# Altium integrated library Diodes - TVS.IntLib: 5379 symbols (part 62 of 122)
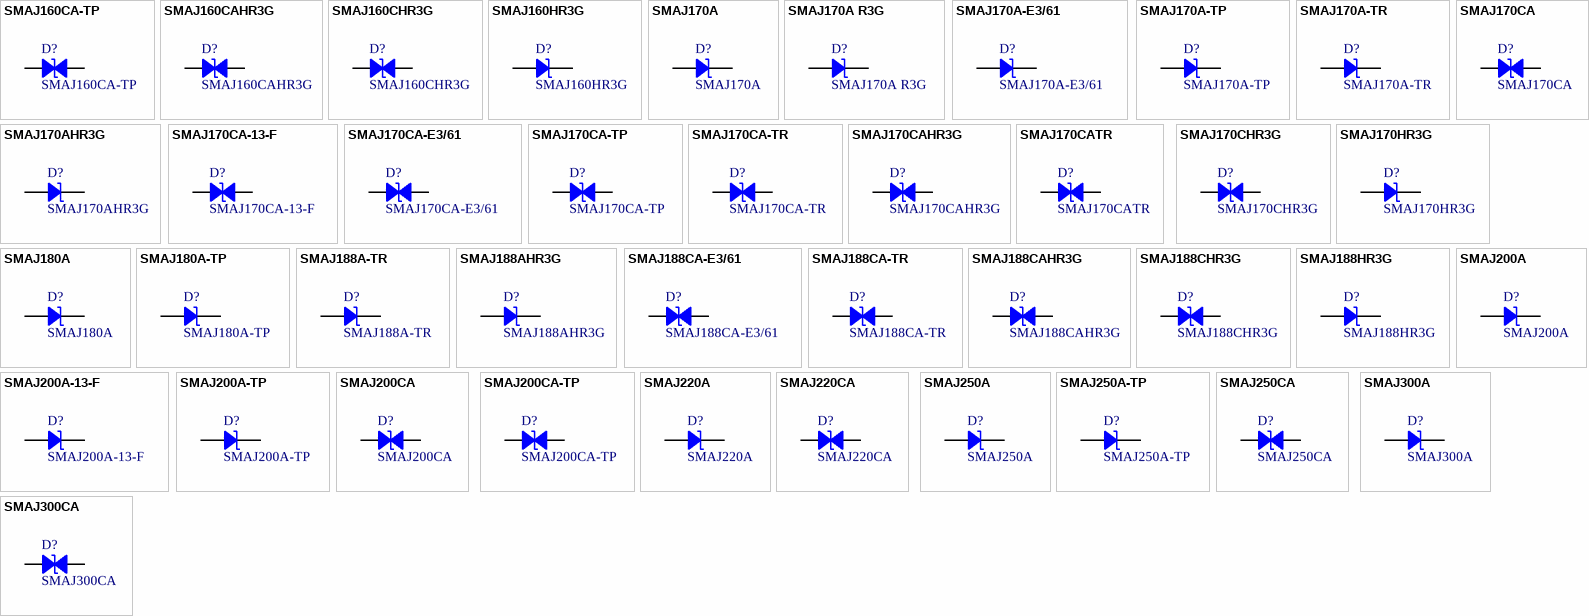
[diagram p195: symbols SMAJ160CA-TP to SMAJ300CA]

## SMAJ170CAHR3G
designator D?
TVS DIODE 170V 275V DO214AC; Manufacturer: Taiwan Semiconductor Corporation; Bidirectional Channels: 1; Current - Peak Pulse (10/1000µs): 1.1A; Power Line Protection: No; Power - Peak Pulse: 400W; Type: Zener; Voltage - Breakdown (Min): 189V; Part Number: SMAJ170CAHR3G; Applications: Automotive; ComponentLink1Description: Datasheet; ComponentLink1URL: https://www.taiwansemi.com/products/datasheet/SMAJ%20SERIES_S1901.pdf; ComponentLink2Description: DigiKey Link; ComponentLink2URL: http://digikey.com/product-detail/en/taiwan-semiconductor-corporation/SMAJ170CAHR3G/SMAJ170CAHR3GCT-ND/10287922; LastUpdated: 9/2/2020 1:27:54 AM; Lifecycle Status: Active; Minimum Order: 1; Mounting Type: Surface Mount; Operating Temperature: -55°C ~ 150°C (TJ); Package / Case: DO-214AC, SMA; Packaging: TapeAndReel; PartId: 7707; Part Status: Active; Price: 0.12; Series: Automotive, AEC-Q101, SMAJ; Supplier 1: DigiKey; Supplier Part Number 1: SMAJ170CAHR3GCT-ND; Supplier Device Package: DO-214AC (SMA); Voltage - Clamping (Max) @ Ipp: 275V; Voltage - Reverse Standoff (Typ): 170V
footprint DO214AC SMA
pins: 1, 2

## SMAJ170CATR
designator D?
TVS DIODE 170V 275V SMA; Manufacturer: SMC Diode Solutions; Bidirectional Channels: 1; Current - Peak Pulse (10/1000µs): 1.4A; Power Line Protection: No; Power - Peak Pulse: 400W; Type: Zener; Voltage - Breakdown (Min): 189V; Part Number: SMAJ170CATR; Applications: General Purpose; ComponentLink1Description: Datasheet; ComponentLink1URL: http://www.smc-diodes.com/propdf/SMAJ%20SERIES%20N0223%20REV.B.pdf; ComponentLink2Description: DigiKey Link; ComponentLink2URL: http://digikey.com/product-detail/en/smc-diode-solutions/SMAJ170CATR/1655-1611-1-ND/6023056; LastUpdated: 9/2/2020 1:27:55 AM; Lifecycle Status: Active; Minimum Order: 1; Mounting Type: Surface Mount; Operating Temperature: -55°C ~ 150°C (TJ); Package / Case: DO-214AC, SMA; Packaging: TapeAndReel; PartId: 7809; Part Status: Active; Price: 0.07; Series: SMAJ; Supplier 1: DigiKey; Supplier Part Number 1: 1655-1611-1-ND; Supplier Device Package: SMA (DO-214AC); Voltage - Clamping (Max) @ Ipp: 275V; Voltage - Reverse Standoff (Typ): 170V
footprint DO214AC SMA
pins: 1, 2

## SMAJ170CHR3G
designator D?
400W 210V 10% BIDIRECTIONAL TVS; Manufacturer: Taiwan Semiconductor Corporation; Bidirectional Channels: 1; Current - Peak Pulse (10/1000µs): 1A; Power Line Protection: No; Type: Zener; Voltage - Breakdown (Min): 189V; Voltage - Clamping (Max) @ Ipp: 304V; Voltage - Reverse Standoff (Typ): 170V; Part Number: SMAJ170CHR3G; Applications: Automotive; ComponentLink1Description: Datasheet; ComponentLink1URL: https://www.taiwansemi.com/products/datasheet/SMAJ%20SERIES_S1901.pdf; ComponentLink2Description: DigiKey Link; ComponentLink2URL: http://digikey.com/product-detail/en/taiwan-semiconductor-corporation/SMAJ170CHR3G/SMAJ170CHR3GCT-ND/10287839; LastUpdated: 9/2/2020 1:27:54 AM; Lifecycle Status: Active; Minimum Order: 1; Mounting Type: Surface Mount; Operating Temperature: -55°C ~ 150°C (TJ); Package / Case: DO-214AC, SMA; Packaging: TapeAndReel; PartId: 7743; Part Status: Active; Power - Peak Pulse: 400W; Price: 0.11; Series: Automotive, AEC-Q101, SMAJ; Supplier 1: DigiKey; Supplier Part Number 1: SMAJ170CHR3GCT-ND; Supplier Device Package: DO-214AC (SMA)
footprint DO214AC SMA
pins: 1, 2

## SMAJ170HR3G
designator D?
400W 210V 10% UNIDIRECTIONAL TVS; Manufacturer: Taiwan Semiconductor Corporation; Current - Peak Pulse (10/1000µs): 1A; Power Line Protection: No; Type: Zener; Unidirectional Channels: 1; Voltage - Breakdown (Min): 189V; Voltage - Clamping (Max) @ Ipp: 304V; Voltage - Reverse Standoff (Typ): 170V; Part Number: SMAJ170HR3G; Applications: Automotive; ComponentLink1Description: Datasheet; ComponentLink1URL: https://www.taiwansemi.com/products/datasheet/SMAJ%20SERIES_S1901.pdf; ComponentLink2Description: DigiKey Link; ComponentLink2URL: http://digikey.com/product-detail/en/taiwan-semiconductor-corporation/SMAJ170HR3G/SMAJ170HR3GCT-ND/10287840; LastUpdated: 9/2/2020 1:20:17 AM; Lifecycle Status: Active; Minimum Order: 1; Mounting Type: Surface Mount; Operating Temperature: -55°C ~ 150°C (TJ); Package / Case: DO-214AC, SMA; Packaging: TapeAndReel; PartId: 6015; Part Status: Active; Power - Peak Pulse: 400W; Price: 0.12; Series: Automotive, AEC-Q101, SMAJ; Supplier 1: DigiKey; Supplier Part Number 1: SMAJ170HR3GCT-ND; Supplier Device Package: DO-214AC (SMA)
footprint DO214AC SMA
pins: 1, 2

## SMAJ180A
designator D?
TVS DIODE 180V 292V DO214AC; Manufacturer: Bourns Inc.; Current - Peak Pulse (10/1000µs): 1.4A; Power Line Protection: No; Power - Peak Pulse: 400W; Type: Zener; Unidirectional Channels: 1; Voltage - Breakdown (Min): 201V; Part Number: SMAJ180A; Applications: General Purpose; ComponentLink1Description: Datasheet; ComponentLink1URL: https://www.bourns.com/docs/Product-Datasheets/SMAJ.pdf; ComponentLink2Description: DigiKey Link; ComponentLink2URL: http://digikey.com/product-detail/en/bourns-inc/SMAJ180A/SMAJ180ABBCT-ND/6181616; LastUpdated: 9/2/2020 1:20:14 AM; Lifecycle Status: Active; Minimum Order: 1; Mounting Type: Surface Mount; Operating Temperature: -55°C ~ 150°C (TJ); Package / Case: DO-214AC, SMA; Packaging: TapeAndReel; PartId: 5724; Part Status: Active; Price: 0.17; Series: SMAJ; Supplier 1: DigiKey; Supplier Part Number 1: SMAJ180ABBCT-ND; Supplier Device Package: DO-214AC (SMA); Voltage - Clamping (Max) @ Ipp: 292V; Voltage - Reverse Standoff (Typ): 180V
footprint DO214AC SMA
pins: 1, 2

## SMAJ180A-TP
designator D?
TVS DIODE 180V 292V DO214AC; Manufacturer: Micro Commercial Co; Current - Peak Pulse (10/1000µs): 1.4A; Power Line Protection: No; Power - Peak Pulse: 400W; Type: Zener; Unidirectional Channels: 1; Voltage - Breakdown (Min): 201V; Part Number: SMAJ180A-TP; Applications: General Purpose; ComponentLink1Description: Datasheet; ComponentLink1URL: https://www.mccsemi.com/pdf/Products/SMAJ5.0~SMAJ440CA(SMA).pdf; ComponentLink2Description: DigiKey Link; ComponentLink2URL: http://digikey.com/product-detail/en/micro-commercial-co/SMAJ180A-TP/SMAJ180A-TPMSCT-ND/4429428; LastUpdated: 9/2/2020 1:20:14 AM; Lifecycle Status: Active; Minimum Order: 1; Mounting Type: Surface Mount; Operating Temperature: -55°C ~ 175°C (TA); Package / Case: DO-214AC, SMA; Packaging: TapeAndReel; PartId: 5658; Part Status: Active; Price: 0.10; Series: -; Supplier 1: DigiKey; Supplier Part Number 1: SMAJ180A-TPMSCT-ND; Supplier Device Package: DO-214AC (SMA); Voltage - Clamping (Max) @ Ipp: 292V; Voltage - Reverse Standoff (Typ): 180V
footprint DO214AC SMA
pins: 1, 2

## SMAJ188A-TR
designator D?
TVS DIODE 188V 388V SMA; Manufacturer: STMicroelectronics; Current - Peak Pulse (10/1000µs): 6A (8/20µs); Power Line Protection: No; Power - Peak Pulse: 400W; Type: Zener; Unidirectional Channels: 1; Voltage - Breakdown (Min): 209V; Part Number: SMAJ188A-TR; Applications: General Purpose; ComponentLink1Description: Datasheet; ComponentLink1URL: http://www.st.com/content/ccc/resource/technical/document/datasheet/ff/c0/80/cc/19/4c/45/af/CD00001333.pdf/files/CD00001333.pdf/_jcr_content/translations/en.CD00001333.pdf; ComponentLink2Description: DigiKey Link; ComponentLink2URL: http://digikey.com/product-detail/en/stmicroelectronics/SMAJ188A-TR/497-16440-1-ND/5974912; LastUpdated: 9/2/2020 1:20:15 AM; Lifecycle Status: Active; Minimum Order: 1; Mounting Type: Surface Mount; Operating Temperature: -55°C ~ 150°C (TJ); Package / Case: DO-214AC, SMA; Packaging: TapeAndReel; PartId: 5820; Part Status: Active; Price: 0.10; Series: SMAJ, TRANSIL™; Supplier 1: DigiKey; Supplier Part Number 1: 497-16440-1-ND; Supplier Device Package: SMA (DO-214AC); Voltage - Clamping (Max) @ Ipp: 388V; Voltage - Reverse Standoff (Typ): 188V
footprint DO214AC SMA
pins: 1, 2

## SMAJ188AHR3G
designator D?
TVS DIODE 188V 328V DO214AC; Manufacturer: Taiwan Semiconductor Corporation; Current - Peak Pulse (10/1000µs): 900mA; Power Line Protection: No; Power - Peak Pulse: 400W; Type: Zener; Unidirectional Channels: 1; Voltage - Breakdown (Min): 209V; Part Number: SMAJ188AHR3G; Applications: Automotive; ComponentLink1Description: Datasheet; ComponentLink1URL: https://www.taiwansemi.com/products/datasheet/SMAJ%20SERIES_S1901.pdf; ComponentLink2Description: DigiKey Link; ComponentLink2URL: http://digikey.com/product-detail/en/taiwan-semiconductor-corporation/SMAJ188AHR3G/SMAJ188AHR3GCT-ND/10287925; LastUpdated: 9/2/2020 1:20:17 AM; Lifecycle Status: Active; Minimum Order: 1; Mounting Type: Surface Mount; Operating Temperature: -55°C ~ 150°C (TJ); Package / Case: DO-214AC, SMA; Packaging: TapeAndReel; PartId: 6032; Part Status: Active; Price: 0.11; Series: Automotive, AEC-Q101, SMAJ; Supplier 1: DigiKey; Supplier Part Number 1: SMAJ188AHR3GCT-ND; Supplier Device Package: DO-214AC (SMA); Voltage - Clamping (Max) @ Ipp: 328V; Voltage - Reverse Standoff (Typ): 188V
footprint DO214AC SMA
pins: 1, 2

## SMAJ188CA-E3/61
designator D?
TVS DIODE 188V 328V DO214AC; Manufacturer: Vishay Semiconductor Diodes Division; Bidirectional Channels: 1; Current - Peak Pulse (10/1000µs): 910mA; Power Line Protection: No; Power - Peak Pulse: 300W; Type: Zener; Voltage - Breakdown (Min): 209V; Part Number: SMAJ188CA-E3/61; Applications: General Purpose; ComponentLink1Description: Datasheet; ComponentLink1URL: http://www.vishay.com/docs/88390/smaj50a.pdf; ComponentLink2Description: DigiKey Link; ComponentLink2URL: http://digikey.com/product-detail/en/vishay-semiconductor-diodes-division/SMAJ188CA-E3-61/SMAJ188CA-E3-61GICT-ND/1091630; LastUpdated: 9/2/2020 1:27:55 AM; Lifecycle Status: Active; Minimum Order: 1; Mounting Type: Surface Mount; Operating Temperature: -55°C ~ 150°C (TJ); Package / Case: DO-214AC, SMA; Packaging: TapeAndReel; PartId: 7832; Part Status: Active; Price: 0.10; Series: TransZorb®; Supplier 1: DigiKey; Supplier Part Number 1: SMAJ188CA-E3/61GICT-ND; Supplier Device Package: DO-214AC (SMA); Voltage - Clamping (Max) @ Ipp: 328V; Voltage - Reverse Standoff (Typ): 188V
footprint DO214AC SMA
pins: 1, 2

## SMAJ188CA-TR
designator D?
TVS DIODE 188V 388V SMA; Manufacturer: STMicroelectronics; Bidirectional Channels: 1; Current - Peak Pulse (10/1000µs): 6A (8/20µs); Power Line Protection: No; Power - Peak Pulse: 400W; Type: Zener; Voltage - Breakdown (Min): 209V; Part Number: SMAJ188CA-TR; Applications: General Purpose; ComponentLink1Description: Datasheet; ComponentLink1URL: http://www.st.com/content/ccc/resource/technical/document/datasheet/ff/c0/80/cc/19/4c/45/af/CD00001333.pdf/files/CD00001333.pdf/_jcr_content/translations/en.CD00001333.pdf; ComponentLink2Description: DigiKey Link; ComponentLink2URL: http://digikey.com/product-detail/en/stmicroelectronics/SMAJ188CA-TR/497-7891-1-ND/1883774; LastUpdated: 9/2/2020 1:27:55 AM; Lifecycle Status: Active; Minimum Order: 1; Mounting Type: Surface Mount; Operating Temperature: -55°C ~ 150°C (TJ); Package / Case: DO-214AC, SMA; Packaging: TapeAndReel; PartId: 7764; Part Status: Active; Price: 0.10; Series: SMAJ, TRANSIL™; Supplier 1: DigiKey; Supplier Part Number 1: 497-7891-1-ND; Supplier Device Package: SMA (DO-214AC); Voltage - Clamping (Max) @ Ipp: 388V; Voltage - Reverse Standoff (Typ): 188V
footprint DO214AC SMA
pins: 1, 2

## SMAJ188CAHR3G
designator D?
TVS DIODE 188V 328V DO214AC; Manufacturer: Taiwan Semiconductor Corporation; Bidirectional Channels: 1; Current - Peak Pulse (10/1000µs): 900mA; Power Line Protection: No; Power - Peak Pulse: 400W; Type: Zener; Voltage - Breakdown (Min): 209V; Part Number: SMAJ188CAHR3G; Applications: Automotive; ComponentLink1Description: Datasheet; ComponentLink1URL: https://www.taiwansemi.com/products/datasheet/SMAJ%20SERIES_S1901.pdf; ComponentLink2Description: DigiKey Link; ComponentLink2URL: http://digikey.com/product-detail/en/taiwan-semiconductor-corporation/SMAJ188CAHR3G/SMAJ188CAHR3GCT-ND/10287926; LastUpdated: 9/2/2020 1:27:54 AM; Lifecycle Status: Active; Minimum Order: 1; Mounting Type: Surface Mount; Operating Temperature: -55°C ~ 150°C (TJ); Package / Case: DO-214AC, SMA; Packaging: TapeAndReel; PartId: 7705; Part Status: Active; Price: 0.12; Series: Automotive, AEC-Q101, SMAJ; Supplier 1: DigiKey; Supplier Part Number 1: SMAJ188CAHR3GCT-ND; Supplier Device Package: DO-214AC (SMA); Voltage - Clamping (Max) @ Ipp: 328V; Voltage - Reverse Standoff (Typ): 188V
footprint DO214AC SMA
pins: 1, 2

## SMAJ188CHR3G
designator D?
400W 232V 10% BIDIRECTIONAL TVS; Manufacturer: Taiwan Semiconductor Corporation; Bidirectional Channels: 1; Current - Peak Pulse (10/1000µs): 900mA; Power Line Protection: No; Type: Zener; Voltage - Breakdown (Min): 209V; Voltage - Clamping (Max) @ Ipp: 344V; Voltage - Reverse Standoff (Typ): 188V; Part Number: SMAJ188CHR3G; Applications: Automotive; ComponentLink1Description: Datasheet; ComponentLink1URL: https://www.taiwansemi.com/products/datasheet/SMAJ%20SERIES_S1901.pdf; ComponentLink2Description: DigiKey Link; ComponentLink2URL: http://digikey.com/product-detail/en/taiwan-semiconductor-corporation/SMAJ188CHR3G/SMAJ188CHR3GCT-ND/10287843; LastUpdated: 9/2/2020 1:27:54 AM; Lifecycle Status: Active; Minimum Order: 1; Mounting Type: Surface Mount; Operating Temperature: -55°C ~ 150°C (TJ); Package / Case: DO-214AC, SMA; Packaging: TapeAndReel; PartId: 7741; Part Status: Active; Power - Peak Pulse: 400W; Price: 0.11; Series: Automotive, AEC-Q101, SMAJ; Supplier 1: DigiKey; Supplier Part Number 1: SMAJ188CHR3GCT-ND; Supplier Device Package: DO-214AC (SMA)
footprint DO214AC SMA
pins: 1, 2

## SMAJ188HR3G
designator D?
400W 232V 10% UNIDIRECTIONAL TVS; Manufacturer: Taiwan Semiconductor Corporation; Current - Peak Pulse (10/1000µs): 900mA; Power Line Protection: No; Type: Zener; Unidirectional Channels: 1; Voltage - Breakdown (Min): 209V; Voltage - Clamping (Max) @ Ipp: 344V; Voltage - Reverse Standoff (Typ): 188V; Part Number: SMAJ188HR3G; Applications: Automotive; ComponentLink1Description: Datasheet; ComponentLink1URL: https://www.taiwansemi.com/products/datasheet/SMAJ%20SERIES_S1901.pdf; ComponentLink2Description: DigiKey Link; ComponentLink2URL: http://digikey.com/product-detail/en/taiwan-semiconductor-corporation/SMAJ188HR3G/SMAJ188HR3GCT-ND/10287844; LastUpdated: 9/2/2020 1:20:17 AM; Lifecycle Status: Active; Minimum Order: 1; Mounting Type: Surface Mount; Operating Temperature: -55°C ~ 150°C (TJ); Package / Case: DO-214AC, SMA; Packaging: TapeAndReel; PartId: 6013; Part Status: Active; Power - Peak Pulse: 400W; Price: 0.12; Series: Automotive, AEC-Q101, SMAJ; Supplier 1: DigiKey; Supplier Part Number 1: SMAJ188HR3GCT-ND; Supplier Device Package: DO-214AC (SMA)
footprint DO214AC SMA
pins: 1, 2

## SMAJ200A
designator D?
TVS DIODE 200V 324V DO214AC; Manufacturer: Littelfuse Inc.; Current - Peak Pulse (10/1000µs): 1.2A; Power Line Protection: No; Power - Peak Pulse: 400W; Type: Zener; Unidirectional Channels: 1; Voltage - Breakdown (Min): 224V; Part Number: SMAJ200A; Applications: General Purpose; ComponentLink1Description: Datasheet; ComponentLink1URL: https://www.littelfuse.com/~/media/electronics/datasheets/tvs_diodes/littelfuse_tvs_diode_smaj_datasheet.pdf.pdf; ComponentLink2Description: DigiKey Link; ComponentLink2URL: http://digikey.com/product-detail/en/littelfuse-inc/SMAJ200A/SMAJ200ALFCT-ND/762554; LastUpdated: 9/2/2020 1:20:14 AM; Lifecycle Status: Active; Minimum Order: 1; Mounting Type: Surface Mount; Operating Temperature: -65°C ~ 150°C (TJ); Package / Case: DO-214AC, SMA; Packaging: TapeAndReel; PartId: 5706; Part Status: Active; Price: 0.10; Series: SMAJ; Supplier 1: DigiKey; Supplier Part Number 1: SMAJ200ALFCT-ND; Supplier Device Package: DO-214AC (SMA); Voltage - Clamping (Max) @ Ipp: 324V; Voltage - Reverse Standoff (Typ): 200V
footprint DO214AC SMA
pins: 1, 2

## SMAJ200A-13-F
designator D?
TVS DIODE 200V 324V SMA; Manufacturer: Diodes Incorporated; Current - Peak Pulse (10/1000µs): 1.2A; Power Line Protection: No; Power - Peak Pulse: 400W; Type: Zener; Unidirectional Channels: 1; Voltage - Breakdown (Min): 224V; Part Number: SMAJ200A-13-F; Applications: General Purpose; ComponentLink1Description: Datasheet; ComponentLink1URL: https://www.diodes.com/assets/Datasheets/ds19005.pdf; ComponentLink2Description: DigiKey Link; ComponentLink2URL: http://digikey.com/product-detail/en/diodes-incorporated/SMAJ200A-13-F/SMAJ200A-13FDICT-ND/2918409; LastUpdated: 9/2/2020 1:20:13 AM; Lifecycle Status: Active; Minimum Order: 1; Mounting Type: Surface Mount; Operating Temperature: -55°C ~ 150°C (TJ); Package / Case: DO-214AC, SMA; Packaging: TapeAndReel; PartId: 5637; Part Status: Active; Price: 0.08; Series: -; Supplier 1: DigiKey; Supplier Part Number 1: SMAJ200A-13FDICT-ND; Supplier Device Package: SMA; Voltage - Clamping (Max) @ Ipp: 324V; Voltage - Reverse Standoff (Typ): 200V
footprint DO214AC SMA
pins: 1, 2

## SMAJ200A-TP
designator D?
TVS DIODE 200V 324V DO214AC; Manufacturer: Micro Commercial Co; Current - Peak Pulse (10/1000µs): 1.2A; Power Line Protection: No; Power - Peak Pulse: 400W; Type: Zener; Unidirectional Channels: 1; Voltage - Breakdown (Min): 224V; Part Number: SMAJ200A-TP; Applications: General Purpose; ComponentLink1Description: Datasheet; ComponentLink1URL: https://www.mccsemi.com/pdf/Products/SMAJ5.0~SMAJ440CA(SMA).pdf; ComponentLink2Description: DigiKey Link; ComponentLink2URL: http://digikey.com/product-detail/en/micro-commercial-co/SMAJ200A-TP/SMAJ200A-TPMSCT-ND/5224318; LastUpdated: 9/2/2020 1:20:17 AM; Lifecycle Status: Active; Minimum Order: 1; Mounting Type: Surface Mount; Operating Temperature: -55°C ~ 175°C (TA); Package / Case: DO-214AC, SMA; Packaging: TapeAndReel; PartId: 6099; Part Status: Active; Price: 0.10; Series: -; Supplier 1: DigiKey; Supplier Part Number 1: SMAJ200A-TPMSCT-ND; Supplier Device Package: DO-214AC (SMA); Voltage - Clamping (Max) @ Ipp: 324V; Voltage - Reverse Standoff (Typ): 200V
footprint DO214AC SMA
pins: 1, 2

## SMAJ200CA
designator D?
TVS DIODE 200V 324V DO214AC; Manufacturer: Littelfuse Inc.; Bidirectional Channels: 1; Current - Peak Pulse (10/1000µs): 1.2A; Power Line Protection: No; Power - Peak Pulse: 400W; Type: Zener; Voltage - Breakdown (Min): 224V; Part Number: SMAJ200CA; Applications: General Purpose; ComponentLink1Description: Datasheet; ComponentLink1URL: https://www.littelfuse.com/~/media/electronics/datasheets/tvs_diodes/littelfuse_tvs_diode_smaj_datasheet.pdf.pdf; ComponentLink2Description: DigiKey Link; ComponentLink2URL: http://digikey.com/product-detail/en/littelfuse-inc/SMAJ200CA/SMAJ200CALFCT-ND/762555; LastUpdated: 9/2/2020 1:27:51 AM; Lifecycle Status: Active; Minimum Order: 1; Mounting Type: Surface Mount; Operating Temperature: -65°C ~ 150°C (TJ); Package / Case: DO-214AC, SMA; Packaging: TapeAndReel; PartId: 7371; Part Status: Active; Price: 0.13; Series: SMAJ; Supplier 1: DigiKey; Supplier Part Number 1: SMAJ200CALFCT-ND; Supplier Device Package: DO-214AC (SMA); Voltage - Clamping (Max) @ Ipp: 324V; Voltage - Reverse Standoff (Typ): 200V
footprint DO214AC SMA
pins: 1, 2

## SMAJ200CA-TP
designator D?
TVS DIODE 200V 324V DO214AC; Manufacturer: Micro Commercial Co; Bidirectional Channels: 1; Current - Peak Pulse (10/1000µs): 1.2A; Power Line Protection: No; Power - Peak Pulse: 400W; Type: Zener; Voltage - Breakdown (Min): 224V; Part Number: SMAJ200CA-TP; Applications: General Purpose; ComponentLink2Description: DigiKey Link; ComponentLink2URL: http://digikey.com/product-detail/en/micro-commercial-co/SMAJ200CA-TP/SMAJ200CA-TPMSCT-ND/7681708; LastUpdated: 9/2/2020 1:27:53 AM; Lifecycle Status: Active; Minimum Order: 1; Mounting Type: Surface Mount; Operating Temperature: -55°C ~ 175°C (TJ); Package / Case: DO-214AC, SMA; Packaging: TapeAndReel; PartId: 7572; Part Status: Active; Price: 0.12; Series: -; Supplier 1: DigiKey; Supplier Part Number 1: SMAJ200CA-TPMSCT-ND; Supplier Device Package: DO-214AC (SMA); Voltage - Clamping (Max) @ Ipp: 324V; Voltage - Reverse Standoff (Typ): 200V
footprint DO214AC SMA
pins: 1, 2

## SMAJ220A
designator D?
TVS DIODE 220V 356V SMA; Manufacturer: Bourns Inc.; Current - Peak Pulse (10/1000µs): 1.1A; Power Line Protection: No; Power - Peak Pulse: 400W; Type: Zener; Unidirectional Channels: 1; Voltage - Breakdown (Min): 246V; Part Number: SMAJ220A; Applications: General Purpose; ComponentLink1Description: Datasheet; ComponentLink1URL: https://www.bourns.com/docs/Product-Datasheets/SMAJ.pdf; ComponentLink2Description: DigiKey Link; ComponentLink2URL: http://digikey.com/product-detail/en/bourns-inc/SMAJ220A/SMAJ220ABBCT-ND/6708274; LastUpdated: 9/2/2020 1:20:16 AM; Lifecycle Status: Active; Minimum Order: 1; Mounting Type: Surface Mount; Operating Temperature: -55°C ~ 150°C (TJ); Package / Case: DO-214AC, SMA; Packaging: TapeAndReel; PartId: 5912; Part Status: Active; Price: 0.17; Series: SMAJ; Supplier 1: DigiKey; Supplier Part Number 1: SMAJ220ABBCT-ND; Supplier Device Package: SMA (DO-214AC); Voltage - Clamping (Max) @ Ipp: 356V; Voltage - Reverse Standoff (Typ): 220V
footprint DO214AC SMA
pins: 1, 2

## SMAJ220CA
designator D?
TVS DIODE 220V 356V DO214AC; Manufacturer: Littelfuse Inc.; Bidirectional Channels: 1; Current - Peak Pulse (10/1000µs): 1.1A; Power Line Protection: No; Power - Peak Pulse: 400W; Type: Zener; Voltage - Breakdown (Min): 246V; Part Number: SMAJ220CA; Applications: General Purpose; ComponentLink1Description: Datasheet; ComponentLink1URL: https://www.littelfuse.com/~/media/electronics/datasheets/tvs_diodes/littelfuse_tvs_diode_smaj_datasheet.pdf.pdf; ComponentLink2Description: DigiKey Link; ComponentLink2URL: http://digikey.com/product-detail/en/littelfuse-inc/SMAJ220CA/SMAJ220CALFCT-ND/762557; LastUpdated: 9/2/2020 1:27:54 AM; Lifecycle Status: Active; Minimum Order: 1; Mounting Type: Surface Mount; Operating Temperature: -65°C ~ 150°C (TJ); Package / Case: DO-214AC, SMA; Packaging: TapeAndReel; PartId: 7757; Part Status: Active; Price: 0.17; Series: SMAJ; Supplier 1: DigiKey; Supplier Part Number 1: SMAJ220CALFCT-ND; Supplier Device Package: DO-214AC (SMA); Voltage - Clamping (Max) @ Ipp: 356V; Voltage - Reverse Standoff (Typ): 220V
footprint DO214AC SMA
pins: 1, 2

## SMAJ250A
designator D?
TVS DIODE 250V 405V DO214AC; Manufacturer: Littelfuse Inc.; Current - Peak Pulse (10/1000µs): 1A; Power Line Protection: No; Power - Peak Pulse: 400W; Type: Zener; Unidirectional Channels: 1; Voltage - Breakdown (Min): 279V; Part Number: SMAJ250A; Applications: General Purpose; ComponentLink1Description: Datasheet; ComponentLink1URL: https://www.littelfuse.com/~/media/electronics/datasheets/tvs_diodes/littelfuse_tvs_diode_smaj_datasheet.pdf.pdf; ComponentLink2Description: DigiKey Link; ComponentLink2URL: http://digikey.com/product-detail/en/littelfuse-inc/SMAJ250A/SMAJ250ALFCT-ND/762558; LastUpdated: 9/2/2020 1:20:18 AM; Lifecycle Status: Active; Minimum Order: 1; Mounting Type: Surface Mount; Operating Temperature: -65°C ~ 150°C (TJ); Package / Case: DO-214AC, SMA; Packaging: TapeAndReel; PartId: 6200; Part Status: Active; Price: 0.15; Series: SMAJ; Supplier 1: DigiKey; Supplier Part Number 1: SMAJ250ALFCT-ND; Supplier Device Package: DO-214AC (SMA); Voltage - Clamping (Max) @ Ipp: 405V; Voltage - Reverse Standoff (Typ): 250V
footprint DO214AC SMA
pins: 1, 2

## SMAJ250A-TP
designator D?
TVS DIODE 250V 405V DO214AC; Manufacturer: Micro Commercial Co; Current - Peak Pulse (10/1000µs): 1A; Power Line Protection: No; Power - Peak Pulse: 400W; Type: Zener; Unidirectional Channels: 1; Voltage - Breakdown (Min): 279V; Part Number: SMAJ250A-TP; Applications: General Purpose; ComponentLink1Description: Datasheet; ComponentLink1URL: https://www.mccsemi.com/pdf/Products/SMAJ5.0~SMAJ440CA(SMA).pdf; ComponentLink2Description: DigiKey Link; ComponentLink2URL: http://digikey.com/product-detail/en/micro-commercial-co/SMAJ250A-TP/SMAJ250A-TPMSCT-ND/5418805; LastUpdated: 9/2/2020 1:20:17 AM; Lifecycle Status: Active; Minimum Order: 1; Mounting Type: Surface Mount; Operating Temperature: -55°C ~ 175°C (TA); Package / Case: DO-214AC, SMA; Packaging: TapeAndReel; PartId: 6092; Part Status: Active; Price: 0.10; Series: -; Supplier 1: DigiKey; Supplier Part Number 1: SMAJ250A-TPMSCT-ND; Supplier Device Package: DO-214AC (SMA); Voltage - Clamping (Max) @ Ipp: 405V; Voltage - Reverse Standoff (Typ): 250V
footprint DO214AC SMA
pins: 1, 2

## SMAJ250CA
designator D?
TVS DIODE 250V 405V DO214AC; Manufacturer: Littelfuse Inc.; Bidirectional Channels: 1; Current - Peak Pulse (10/1000µs): 1A; Power Line Protection: No; Power - Peak Pulse: 400W; Type: Zener; Voltage - Breakdown (Min): 279V; Part Number: SMAJ250CA; Applications: General Purpose; ComponentLink1Description: Datasheet; ComponentLink1URL: https://www.littelfuse.com/~/media/electronics/datasheets/tvs_diodes/littelfuse_tvs_diode_smaj_datasheet.pdf.pdf; ComponentLink2Description: DigiKey Link; ComponentLink2URL: http://digikey.com/product-detail/en/littelfuse-inc/SMAJ250CA/SMAJ250CALFCT-ND/762559; LastUpdated: 9/2/2020 1:27:51 AM; Lifecycle Status: Active; Minimum Order: 1; Mounting Type: Surface Mount; Operating Temperature: -65°C ~ 150°C (TJ); Package / Case: DO-214AC, SMA; Packaging: TapeAndReel; PartId: 7385; Part Status: Active; Price: 0.17; Series: SMAJ; Supplier 1: DigiKey; Supplier Part Number 1: SMAJ250CALFCT-ND; Supplier Device Package: DO-214AC (SMA); Voltage - Clamping (Max) @ Ipp: 405V; Voltage - Reverse Standoff (Typ): 250V
footprint DO214AC SMA
pins: 1, 2

## SMAJ300A
designator D?
TVS DIODE 300V 486V DO214AC; Manufacturer: Littelfuse Inc.; Current - Peak Pulse (10/1000µs): 800mA; Power Line Protection: No; Power - Peak Pulse: 400W; Type: Zener; Unidirectional Channels: 1; Voltage - Breakdown (Min): 335V; Part Number: SMAJ300A; Applications: General Purpose; ComponentLink1Description: Datasheet; ComponentLink1URL: https://www.littelfuse.com/~/media/electronics/datasheets/tvs_diodes/littelfuse_tvs_diode_smaj_datasheet.pdf.pdf; ComponentLink2Description: DigiKey Link; ComponentLink2URL: http://digikey.com/product-detail/en/littelfuse-inc/SMAJ300A/SMAJ300ALFCT-ND/762560; LastUpdated: 9/2/2020 1:20:14 AM; Lifecycle Status: Active; Minimum Order: 1; Mounting Type: Surface Mount; Operating Temperature: -65°C ~ 150°C (TJ); Package / Case: DO-214AC, SMA; Packaging: TapeAndReel; PartId: 5695; Part Status: Active; Price: 0.16; Series: SMAJ; Supplier 1: DigiKey; Supplier Part Number 1: SMAJ300ALFCT-ND; Supplier Device Package: DO-214AC (SMA); Voltage - Clamping (Max) @ Ipp: 486V; Voltage - Reverse Standoff (Typ): 300V
footprint DO214AC SMA
pins: 1, 2

## SMAJ300CA
designator D?
TVS DIODE 300V 486V DO214AC; Manufacturer: Littelfuse Inc.; Bidirectional Channels: 1; Current - Peak Pulse (10/1000µs): 800mA; Power Line Protection: No; Power - Peak Pulse: 400W; Type: Zener; Voltage - Breakdown (Min): 335V; Part Number: SMAJ300CA; Applications: General Purpose; ComponentLink1Description: Datasheet; ComponentLink1URL: https://www.littelfuse.com/~/media/electronics/datasheets/tvs_diodes/littelfuse_tvs_diode_smaj_datasheet.pdf.pdf; ComponentLink2Description: DigiKey Link; ComponentLink2URL: http://digikey.com/product-detail/en/littelfuse-inc/SMAJ300CA/SMAJ300CALFCT-ND/762561; LastUpdated: 9/2/2020 1:27:50 AM; Lifecycle Status: Active; Minimum Order: 1; Mounting Type: Surface Mount; Operating Temperature: -65°C ~ 150°C (TJ); Package / Case: DO-214AC, SMA; Packaging: TapeAndReel; PartId: 7308; Part Status: Active; Price: 0.17; Series: SMAJ; Supplier 1: DigiKey; Supplier Part Number 1: SMAJ300CALFCT-ND; Supplier Device Package: DO-214AC (SMA); Voltage - Clamping (Max) @ Ipp: 486V; Voltage - Reverse Standoff (Typ): 300V
footprint DO214AC SMA
pins: 1, 2

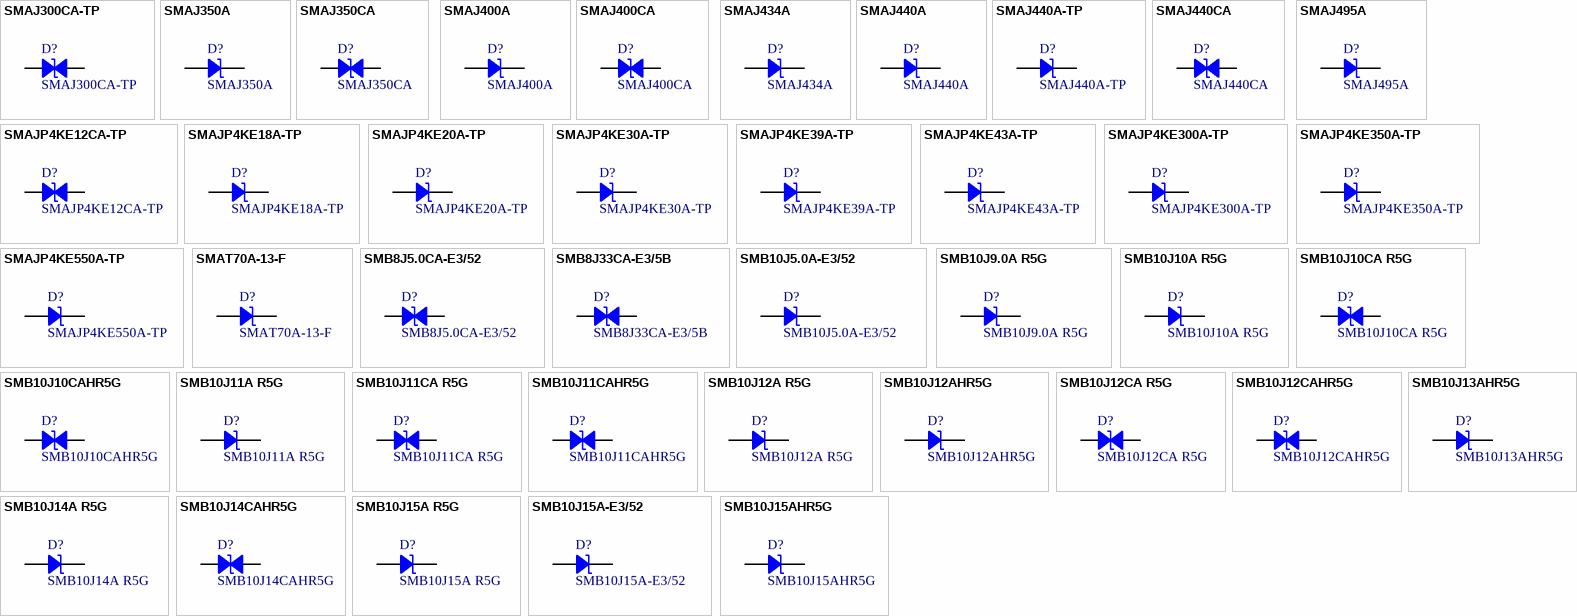
[diagram p68: symbols SMAJ300CA-TP to SMB10J15AHR5G]

## SMAJ300CA-TP
designator D?
TVS DIODE 300V 486V DO214AC; Manufacturer: Micro Commercial Co; Bidirectional Channels: 1; Current - Peak Pulse (10/1000µs): 800mA; Power Line Protection: No; Power - Peak Pulse: 400W; Type: Zener; Voltage - Breakdown (Min): 335V; Part Number: SMAJ300CA-TP; Applications: General Purpose; ComponentLink1Description: Datasheet; ComponentLink1URL: https://www.mccsemi.com/pdf/Products/SMAJ5.0~SMAJ440CA(SMA)-J.pdf; ComponentLink2Description: DigiKey Link; ComponentLink2URL: http://digikey.com/product-detail/en/micro-commercial-co/SMAJ300CA-TP/SMAJ300CA-TPMSCT-ND/4936182; LastUpdated: 9/2/2020 1:27:52 AM; Lifecycle Status: Active; Minimum Order: 1; Mounting Type: Surface Mount; Operating Temperature: -55°C ~ 175°C (TA); Package / Case: DO-214AC, SMA; Packaging: TapeAndReel; PartId: 7435; Part Status: Active; Price: 0.18; Series: -; Supplier 1: DigiKey; Supplier Part Number 1: SMAJ300CA-TPMSCT-ND; Supplier Device Package: DO-214AC (SMA); Voltage - Clamping (Max) @ Ipp: 486V; Voltage - Reverse Standoff (Typ): 300V
footprint DO214AC SMA
pins: 1, 2

## SMAJ350A
designator D?
TVS DIODE 350V 567V SMA; Manufacturer: Bourns Inc.; Current - Peak Pulse (10/1000µs): 700mA; Power Line Protection: No; Power - Peak Pulse: 400W; Type: Zener; Unidirectional Channels: 1; Voltage - Breakdown (Min): 391V; Part Number: SMAJ350A; Applications: General Purpose; ComponentLink1Description: Datasheet; ComponentLink1URL: https://www.bourns.com/docs/Product-Datasheets/SMAJ.pdf; ComponentLink2Description: DigiKey Link; ComponentLink2URL: http://digikey.com/product-detail/en/bourns-inc/SMAJ350A/SMAJ350ABBCT-ND/6708277; LastUpdated: 9/2/2020 1:20:13 AM; Lifecycle Status: Active; Minimum Order: 1; Mounting Type: Surface Mount; Operating Temperature: -55°C ~ 150°C (TJ); Package / Case: DO-214AC, SMA; Packaging: TapeAndReel; PartId: 5615; Part Status: Active; Price: 0.17; Series: SMAJ; Supplier 1: DigiKey; Supplier Part Number 1: SMAJ350ABBCT-ND; Supplier Device Package: SMA (DO-214AC); Voltage - Clamping (Max) @ Ipp: 567V; Voltage - Reverse Standoff (Typ): 350V
footprint DO214AC SMA
pins: 1, 2

## SMAJ350CA
designator D?
TVS DIODE 350V 567V SMA; Manufacturer: Bourns Inc.; Bidirectional Channels: 1; Current - Peak Pulse (10/1000µs): 700mA; Power Line Protection: No; Power - Peak Pulse: 400W; Type: Zener; Voltage - Breakdown (Min): 391V; Part Number: SMAJ350CA; Applications: General Purpose; ComponentLink1Description: Datasheet; ComponentLink1URL: https://www.bourns.com/docs/Product-Datasheets/SMAJ.pdf; ComponentLink2Description: DigiKey Link; ComponentLink2URL: http://digikey.com/product-detail/en/bourns-inc/SMAJ350CA/SMAJ350CABBCT-ND/6708278; LastUpdated: 9/2/2020 1:27:50 AM; Lifecycle Status: Active; Minimum Order: 1; Mounting Type: Surface Mount; Operating Temperature: -55°C ~ 150°C (TJ); Package / Case: DO-214AC, SMA; Packaging: TapeAndReel; PartId: 7326; Part Status: Active; Price: 0.20; Series: SMAJ; Supplier 1: DigiKey; Supplier Part Number 1: SMAJ350CABBCT-ND; Supplier Device Package: SMA (DO-214AC); Voltage - Clamping (Max) @ Ipp: 567V; Voltage - Reverse Standoff (Typ): 350V
footprint DO214AC SMA
pins: 1, 2

## SMAJ400A
designator D?
TVS DIODE 400V 648V DO214AC; Manufacturer: Bourns Inc.; Current - Peak Pulse (10/1000µs): 600mA; Power Line Protection: No; Power - Peak Pulse: 400W; Type: Zener; Unidirectional Channels: 1; Voltage - Breakdown (Min): 447V; Part Number: SMAJ400A; Applications: General Purpose; ComponentLink1Description: Datasheet; ComponentLink1URL: https://www.bourns.com/docs/Product-Datasheets/SMAJ.pdf; ComponentLink2Description: DigiKey Link; ComponentLink2URL: http://digikey.com/product-detail/en/bourns-inc/SMAJ400A/SMAJ400ABBCT-ND/6181620; LastUpdated: 9/2/2020 1:20:13 AM; Lifecycle Status: Active; Minimum Order: 1; Mounting Type: Surface Mount; Operating Temperature: -55°C ~ 150°C (TJ); Package / Case: DO-214AC, SMA; Packaging: TapeAndReel; PartId: 5621; Part Status: Active; Price: 0.17; Series: SMAJ; Supplier 1: DigiKey; Supplier Part Number 1: SMAJ400ABBCT-ND; Supplier Device Package: DO-214AC (SMA); Voltage - Clamping (Max) @ Ipp: 648V; Voltage - Reverse Standoff (Typ): 400V
footprint DO214AC SMA
pins: 1, 2

## SMAJ400CA
designator D?
TVS DIODE 400V 648V DO214AC; Manufacturer: Bourns Inc.; Bidirectional Channels: 1; Current - Peak Pulse (10/1000µs): 600mA; Power Line Protection: No; Power - Peak Pulse: 400W; Type: Zener; Voltage - Breakdown (Min): 447V; Part Number: SMAJ400CA; Applications: General Purpose; ComponentLink1Description: Datasheet; ComponentLink1URL: https://www.bourns.com/docs/Product-Datasheets/SMAJ.pdf; ComponentLink2Description: DigiKey Link; ComponentLink2URL: http://digikey.com/product-detail/en/bourns-inc/SMAJ400CA/SMAJ400CABBCT-ND/6181621; LastUpdated: 9/2/2020 1:27:50 AM; Lifecycle Status: Active; Minimum Order: 1; Mounting Type: Surface Mount; Operating Temperature: -55°C ~ 150°C (TJ); Package / Case: DO-214AC, SMA; Packaging: TapeAndReel; PartId: 7314; Part Status: Active; Price: 0.20; Series: SMAJ; Supplier 1: DigiKey; Supplier Part Number 1: SMAJ400CABBCT-ND; Supplier Device Package: DO-214AC (SMA); Voltage - Clamping (Max) @ Ipp: 648V; Voltage - Reverse Standoff (Typ): 400V
footprint DO214AC SMA
pins: 1, 2

## SMAJ434A
designator D?
TVS DIODE 434V 698V SMA; Manufacturer: Bourns Inc.; Current - Peak Pulse (10/1000µs): 600mA; Power Line Protection: No; Power - Peak Pulse: 400W; Type: Zener; Unidirectional Channels: 1; Voltage - Breakdown (Min): 485V; Part Number: SMAJ434A; Applications: General Purpose; ComponentLink1Description: Datasheet; ComponentLink1URL: https://www.bourns.com/docs/Product-Datasheets/SMAJ.pdf; ComponentLink2Description: DigiKey Link; ComponentLink2URL: http://digikey.com/product-detail/en/bourns-inc/SMAJ434A/SMAJ434ACT-ND/3918531; LastUpdated: 9/2/2020 1:20:13 AM; Lifecycle Status: Active; Minimum Order: 1; Mounting Type: Surface Mount; Operating Temperature: -55°C ~ 150°C (TJ); Package / Case: DO-214AC, SMA; Packaging: TapeAndReel; PartId: 5574; Part Status: Active; Price: 0.17; Series: SMAJ; Supplier 1: DigiKey; Supplier Part Number 1: SMAJ434ACT-ND; Supplier Device Package: SMA (DO-214AC); Voltage - Clamping (Max) @ Ipp: 698V; Voltage - Reverse Standoff (Typ): 434V
footprint DO214AC SMA
pins: 1, 2

## SMAJ440A
designator D?
TVS DIODE 440V 713V DO214AC; Manufacturer: Bourns Inc.; Current - Peak Pulse (10/1000µs): 600mA; Power Line Protection: No; Power - Peak Pulse: 400W; Type: Zener; Unidirectional Channels: 1; Voltage - Breakdown (Min): 492V; Part Number: SMAJ440A; Applications: General Purpose; ComponentLink1Description: Datasheet; ComponentLink1URL: https://www.bourns.com/docs/Product-Datasheets/SMAJ.pdf; ComponentLink2Description: DigiKey Link; ComponentLink2URL: http://digikey.com/product-detail/en/bourns-inc/SMAJ440A/SMAJ440ABBCT-ND/6181622; LastUpdated: 9/2/2020 1:20:14 AM; Lifecycle Status: Active; Minimum Order: 1; Mounting Type: Surface Mount; Operating Temperature: -55°C ~ 150°C (TJ); Package / Case: DO-214AC, SMA; Packaging: TapeAndReel; PartId: 5729; Part Status: Active; Price: 0.17; Series: SMAJ; Supplier 1: DigiKey; Supplier Part Number 1: SMAJ440ABBCT-ND; Supplier Device Package: DO-214AC (SMA); Voltage - Clamping (Max) @ Ipp: 713V; Voltage - Reverse Standoff (Typ): 440V
footprint DO214AC SMA
pins: 1, 2

## SMAJ440A-TP
designator D?
TVS DIODE 440V 713V DO214AC; Manufacturer: Micro Commercial Co; Current - Peak Pulse (10/1000µs): 600mA; Power Line Protection: No; Power - Peak Pulse: 400W; Type: Zener; Unidirectional Channels: 1; Voltage - Breakdown (Min): 492V; Part Number: SMAJ440A-TP; Applications: General Purpose; ComponentLink1Description: Datasheet; ComponentLink1URL: https://www.mccsemi.com/pdf/Products/SMAJ5.0~SMAJ440CA(SMA).pdf; ComponentLink2Description: DigiKey Link; ComponentLink2URL: http://digikey.com/product-detail/en/micro-commercial-co/SMAJ440A-TP/SMAJ440A-TPMSCT-ND/4429427; LastUpdated: 9/2/2020 1:20:15 AM; Lifecycle Status: Active; Minimum Order: 1; Mounting Type: Surface Mount; Operating Temperature: -55°C ~ 175°C (TA); Package / Case: DO-214AC, SMA; Packaging: TapeAndReel; PartId: 5819; Part Status: Active; Price: 0.10; Series: -; Supplier 1: DigiKey; Supplier Part Number 1: SMAJ440A-TPMSCT-ND; Supplier Device Package: DO-214AC (SMA); Voltage - Clamping (Max) @ Ipp: 713V; Voltage - Reverse Standoff (Typ): 440V
footprint DO214AC SMA
pins: 1, 2

## SMAJ440CA
designator D?
TVS DIODE 440V 713V DO214AC; Manufacturer: Littelfuse Inc.; Bidirectional Channels: 1; Current - Peak Pulse (10/1000µs): 600mA; Power Line Protection: No; Power - Peak Pulse: 400W; Type: Zener; Voltage - Breakdown (Min): 492V; Part Number: SMAJ440CA; Applications: General Purpose; ComponentLink1Description: Datasheet; ComponentLink1URL: https://www.littelfuse.com/~/media/electronics/datasheets/tvs_diodes/littelfuse_tvs_diode_smaj_datasheet.pdf.pdf; ComponentLink2Description: DigiKey Link; ComponentLink2URL: http://digikey.com/product-detail/en/littelfuse-inc/SMAJ440CA/SMAJ440CALFCT-ND/762567; LastUpdated: 9/2/2020 1:27:50 AM; Lifecycle Status: Active; Minimum Order: 1; Mounting Type: Surface Mount; Operating Temperature: -65°C ~ 150°C (TJ); Package / Case: DO-214AC, SMA; Packaging: TapeAndReel; PartId: 7277; Part Status: Active; Price: 0.21; Series: SMAJ; Supplier 1: DigiKey; Supplier Part Number 1: SMAJ440CALFCT-ND; Supplier Device Package: DO-214AC (SMA); Voltage - Clamping (Max) @ Ipp: 713V; Voltage - Reverse Standoff (Typ): 440V
footprint DO214AC SMA
pins: 1, 2

## SMAJ495A
designator D?
TVS DIODE 495V 760V SMA; Manufacturer: Bourns Inc.; Current - Peak Pulse (10/1000µs): 500mA; Power Line Protection: No; Power - Peak Pulse: 400W; Type: Zener; Unidirectional Channels: 1; Voltage - Breakdown (Min): 522V; Part Number: SMAJ495A; Applications: General Purpose; ComponentLink1Description: Datasheet; ComponentLink1URL: https://www.bourns.com/docs/Product-Datasheets/SMAJ.pdf; ComponentLink2Description: DigiKey Link; ComponentLink2URL: http://digikey.com/product-detail/en/bourns-inc/SMAJ495A/SMAJ495ACT-ND/3918532; LastUpdated: 9/2/2020 1:20:14 AM; Lifecycle Status: Active; Minimum Order: 1; Mounting Type: Surface Mount; Operating Temperature: -55°C ~ 150°C (TJ); Package / Case: DO-214AC, SMA; Packaging: TapeAndReel; PartId: 5728; Part Status: Active; Price: 0.17; Series: SMAJ; Supplier 1: DigiKey; Supplier Part Number 1: SMAJ495ACT-ND; Supplier Device Package: SMA (DO-214AC); Voltage - Clamping (Max) @ Ipp: 760V; Voltage - Reverse Standoff (Typ): 495V
footprint DO214AC SMA
pins: 1, 2

## SMAJP4KE12CA-TP
designator D?
TVS DIODE 10.2V 16.7V DO214AC; Manufacturer: Micro Commercial Co; Bidirectional Channels: 1; Current - Peak Pulse (10/1000µs): 24.6A; Power Line Protection: No; Power - Peak Pulse: 400W; Type: Zener; Voltage - Breakdown (Min): 11.4V; Part Number: SMAJP4KE12CA-TP; Applications: General Purpose; ComponentLink1Description: Datasheet; ComponentLink1URL: https://www.mccsemi.com/pdf/Products/SMAJP4KE6.8(C)A-SMAJP4KE550(C)A(DO-214AC)-G.pdf; ComponentLink2Description: DigiKey Link; ComponentLink2URL: http://digikey.com/product-detail/en/micro-commercial-co/SMAJP4KE12CA-TP/SMAJP4KE12CA-TPMSCT-ND/5114042; LastUpdated: 9/2/2020 1:27:54 AM; Lifecycle Status: Active; Minimum Order: 1; Mounting Type: Surface Mount; Operating Temperature: -55°C ~ 175°C (TJ); Package / Case: DO-214AC, SMA; Packaging: TapeAndReel; PartId: 7647; Part Status: Active; Price: 0.10; Series: -; Supplier 1: DigiKey; Supplier Part Number 1: SMAJP4KE12CA-TPMSCT-ND; Supplier Device Package: DO-214AC (SMA); Voltage - Clamping (Max) @ Ipp: 16.7V; Voltage - Reverse Standoff (Typ): 10.2V
footprint DO214AC SMA
pins: 1, 2

## SMAJP4KE18A-TP
designator D?
TVS DIODE 15.3V 25.5V DO214AC; Manufacturer: Micro Commercial Co; Current - Peak Pulse (10/1000µs): 16.1A; Power Line Protection: No; Power - Peak Pulse: 400W; Type: Zener; Unidirectional Channels: 1; Voltage - Breakdown (Min): 17.1V; Part Number: SMAJP4KE18A-TP; Applications: General Purpose; ComponentLink1Description: Datasheet; ComponentLink1URL: https://www.mccsemi.com/pdf/Products/SMAJP4KE6.8(C)A-SMAJP4KE550(C)A(DO-214AC)-G.pdf; ComponentLink2Description: DigiKey Link; ComponentLink2URL: http://digikey.com/product-detail/en/micro-commercial-co/SMAJP4KE18A-TP/SMAJP4KE18A-TPMSCT-ND/5114043; LastUpdated: 9/2/2020 1:20:18 AM; Lifecycle Status: Active; Minimum Order: 1; Mounting Type: Surface Mount; Operating Temperature: -55°C ~ 175°C (TJ); Package / Case: DO-214AC, SMA; Packaging: TapeAndReel; PartId: 6126; Part Status: Active; Price: 0.10; Series: -; Supplier 1: DigiKey; Supplier Part Number 1: SMAJP4KE18A-TPMSCT-ND; Supplier Device Package: DO-214AC (SMAJ); Voltage - Clamping (Max) @ Ipp: 25.5V; Voltage - Reverse Standoff (Typ): 15.3V
footprint DO214AC SMA
pins: 1, 2

## SMAJP4KE20A-TP
designator D?
TVS DIODE 17.1V 27.7V DO214AC; Manufacturer: Micro Commercial Co; Current - Peak Pulse (10/1000µs): 14.8A; Power Line Protection: No; Power - Peak Pulse: 400W; Type: Zener; Unidirectional Channels: 1; Voltage - Breakdown (Min): 19V; Part Number: SMAJP4KE20A-TP; Applications: General Purpose; ComponentLink1Description: Datasheet; ComponentLink1URL: https://www.mccsemi.com/pdf/Products/SMAJP4KE6.8(C)A-SMAJP4KE550(C)A(DO-214AC)-V2.pdf; ComponentLink2Description: DigiKey Link; ComponentLink2URL: http://digikey.com/product-detail/en/micro-commercial-co/SMAJP4KE20A-TP/SMAJP4KE20A-TPMSCT-ND/7681710; LastUpdated: 9/2/2020 1:20:18 AM; Lifecycle Status: Active; Minimum Order: 1; Mounting Type: Surface Mount; Operating Temperature: -55°C ~ 175°C (TJ); Package / Case: DO-214AC, SMA; Packaging: TapeAndReel; PartId: 6177; Part Status: Active; Price: 0.09; Series: -; Supplier 1: DigiKey; Supplier Part Number 1: SMAJP4KE20A-TPMSCT-ND; Supplier Device Package: DO-214AC (SMAJ); Voltage - Clamping (Max) @ Ipp: 27.7V; Voltage - Reverse Standoff (Typ): 17.1V
footprint DO214AC SMA
pins: 1, 2

## SMAJP4KE30A-TP
designator D?
TVS DIODE 25.6V 41.4V DO214AC; Manufacturer: Micro Commercial Co; Current - Peak Pulse (10/1000µs): 9.9A; Power Line Protection: No; Power - Peak Pulse: 400W; Type: Zener; Unidirectional Channels: 1; Voltage - Breakdown (Min): 28.5V; Part Number: SMAJP4KE30A-TP; Applications: General Purpose; ComponentLink1Description: Datasheet; ComponentLink1URL: https://www.mccsemi.com/pdf/Products/SMAJP4KE6.8(C)A-SMAJP4KE550(C)A(DO-214AC)-V2.pdf; ComponentLink2Description: DigiKey Link; ComponentLink2URL: http://digikey.com/product-detail/en/micro-commercial-co/SMAJP4KE30A-TP/SMAJP4KE30A-TPMSCT-ND/7681713; LastUpdated: 9/2/2020 1:20:18 AM; Lifecycle Status: Active; Minimum Order: 1; Mounting Type: Surface Mount; Operating Temperature: -55°C ~ 175°C (TJ); Package / Case: DO-214AC, SMA; Packaging: TapeAndReel; PartId: 6175; Part Status: Active; Price: 0.09; Series: -; Supplier 1: DigiKey; Supplier Part Number 1: SMAJP4KE30A-TPMSCT-ND; Supplier Device Package: DO-214AC (SMAJ); Voltage - Clamping (Max) @ Ipp: 41.4V; Voltage - Reverse Standoff (Typ): 25.6V
footprint DO214AC SMA
pins: 1, 2

## SMAJP4KE39A-TP
designator D?
TVS DIODE 33.3V 53.9V DO214AC; Manufacturer: Micro Commercial Co; Current - Peak Pulse (10/1000µs): 7.6A; Power Line Protection: No; Power - Peak Pulse: 400W; Type: Zener; Unidirectional Channels: 1; Voltage - Breakdown (Min): 37.1V; Part Number: SMAJP4KE39A-TP; Applications: General Purpose; ComponentLink1Description: Datasheet; ComponentLink1URL: https://www.mccsemi.com/pdf/Products/SMAJP4KE6.8(C)A-SMAJP4KE550(C)A(DO-214AC)-G.pdf; ComponentLink2Description: DigiKey Link; ComponentLink2URL: http://digikey.com/product-detail/en/micro-commercial-co/SMAJP4KE39A-TP/SMAJP4KE39A-TPMSCT-ND/5418806; LastUpdated: 9/2/2020 1:20:17 AM; Lifecycle Status: Active; Minimum Order: 1; Mounting Type: Surface Mount; Operating Temperature: -55°C ~ 175°C (TJ); Package / Case: DO-214AC, SMA; Packaging: TapeAndReel; PartId: 6107; Part Status: Active; Price: 0.74; Series: -; Supplier 1: DigiKey; Supplier Part Number 1: SMAJP4KE39A-TPMSCT-ND; Supplier Device Package: DO-214AC (SMAJ); Voltage - Clamping (Max) @ Ipp: 53.9V; Voltage - Reverse Standoff (Typ): 33.3V
footprint DO214AC SMA
pins: 1, 2

## SMAJP4KE43A-TP
designator D?
TVS DIODE 36.8V 59.3V DO214AC; Manufacturer: Micro Commercial Co; Current - Peak Pulse (10/1000µs): 6.9A; Power Line Protection: No; Power - Peak Pulse: 400W; Type: Zener; Unidirectional Channels: 1; Voltage - Breakdown (Min): 40.9V; Part Number: SMAJP4KE43A-TP; Applications: General Purpose; ComponentLink1Description: Datasheet; ComponentLink1URL: https://www.mccsemi.com/pdf/Products/SMAJP4KE6.8(C)A-SMAJP4KE550(C)A(DO-214AC)-V2.pdf; ComponentLink2Description: DigiKey Link; ComponentLink2URL: http://digikey.com/product-detail/en/micro-commercial-co/SMAJP4KE43A-TP/SMAJP4KE43A-TPMSCT-ND/7681714; LastUpdated: 9/2/2020 1:20:18 AM; Lifecycle Status: Active; Minimum Order: 1; Mounting Type: Surface Mount; Operating Temperature: -55°C ~ 175°C (TJ); Package / Case: DO-214AC, SMA; Packaging: TapeAndReel; PartId: 6168; Part Status: Active; Price: 0.09; Series: -; Supplier 1: DigiKey; Supplier Part Number 1: SMAJP4KE43A-TPMSCT-ND; Supplier Device Package: DO-214AC (SMA); Voltage - Clamping (Max) @ Ipp: 59.3V; Voltage - Reverse Standoff (Typ): 36.8V
footprint DO214AC SMA
pins: 1, 2

## SMAJP4KE300A-TP
designator D?
TVS DIODE 256V 414V DO214AC; Manufacturer: Micro Commercial Co; Current - Peak Pulse (10/1000µs): 1A; Power Line Protection: No; Power - Peak Pulse: 400W; Type: Zener; Unidirectional Channels: 1; Voltage - Breakdown (Min): 285V; Part Number: SMAJP4KE300A-TP; Applications: General Purpose; ComponentLink1Description: Datasheet; ComponentLink1URL: https://www.mccsemi.com/pdf/Products/SMAJP4KE6.8(C)A-SMAJP4KE550(C)A(DO-214AC)-V2.pdf; ComponentLink2Description: DigiKey Link; ComponentLink2URL: http://digikey.com/product-detail/en/micro-commercial-co/SMAJP4KE300A-TP/SMAJP4KE300A-TPMSCT-ND/7681711; LastUpdated: 9/2/2020 1:20:18 AM; Lifecycle Status: Active; Minimum Order: 1; Mounting Type: Surface Mount; Operating Temperature: -55°C ~ 175°C (TJ); Package / Case: DO-214AC, SMA; Packaging: TapeAndReel; PartId: 6117; Part Status: Active; Price: 0.12; Series: -; Supplier 1: DigiKey; Supplier Part Number 1: SMAJP4KE300A-TPMSCT-ND; Supplier Device Package: DO-214AC (SMAJ); Voltage - Clamping (Max) @ Ipp: 414V; Voltage - Reverse Standoff (Typ): 256V
footprint DO214AC SMA
pins: 1, 2

## SMAJP4KE350A-TP
designator D?
TVS DIODE 300V 482V DO214AC; Manufacturer: Micro Commercial Co; Current - Peak Pulse (10/1000µs): 900mA; Power Line Protection: No; Power - Peak Pulse: 400W; Type: Zener; Unidirectional Channels: 1; Voltage - Breakdown (Min): 332V; Part Number: SMAJP4KE350A-TP; Applications: General Purpose; ComponentLink1Description: Datasheet; ComponentLink1URL: https://www.mccsemi.com/pdf/Products/SMAJP4KE6.8(C)A-SMAJP4KE550(C)A(DO-214AC)-V2.pdf; ComponentLink2Description: DigiKey Link; ComponentLink2URL: http://digikey.com/product-detail/en/micro-commercial-co/SMAJP4KE350A-TP/SMAJP4KE350A-TPMSCT-ND/7681712; LastUpdated: 9/2/2020 1:20:18 AM; Lifecycle Status: Active; Minimum Order: 1; Mounting Type: Surface Mount; Operating Temperature: -55°C ~ 175°C (TJ); Package / Case: DO-214AC, SMA; Packaging: TapeAndReel; PartId: 6119; Part Status: Active; Price: 0.12; Series: -; Supplier 1: DigiKey; Supplier Part Number 1: SMAJP4KE350A-TPMSCT-ND; Supplier Device Package: DO-214AC (SMAJ); Voltage - Clamping (Max) @ Ipp: 482V; Voltage - Reverse Standoff (Typ): 300V
footprint DO214AC SMA
pins: 1, 2

## SMAJP4KE550A-TP
designator D?
TVS DIODE 495V 760V DO214AC; Manufacturer: Micro Commercial Co; Current - Peak Pulse (10/1000µs): 500mA; Power Line Protection: No; Power - Peak Pulse: 400W; Type: Zener; Unidirectional Channels: 1; Voltage - Breakdown (Min): 522.5V; Part Number: SMAJP4KE550A-TP; Applications: General Purpose; ComponentLink1Description: Datasheet; ComponentLink1URL: https://www.mccsemi.com/pdf/Products/SMAJP4KE6.8(C)A-SMAJP4KE550(C)A(DO-214AC)-G.pdf; ComponentLink2Description: DigiKey Link; ComponentLink2URL: http://digikey.com/product-detail/en/micro-commercial-co/SMAJP4KE550A-TP/SMAJP4KE550A-TPMSCT-ND/7681715; LastUpdated: 9/2/2020 1:20:17 AM; Lifecycle Status: Active; Minimum Order: 1; Mounting Type: Surface Mount; Operating Temperature: -55°C ~ 175°C (TJ); Package / Case: DO-214AC, SMA; Packaging: TapeAndReel; PartId: 6115; Part Status: Active; Price: 0.12; Series: -; Supplier 1: DigiKey; Supplier Part Number 1: SMAJP4KE550A-TPMSCT-ND; Supplier Device Package: DO-214AC (SMAJ); Voltage - Clamping (Max) @ Ipp: 760V; Voltage - Reverse Standoff (Typ): 495V
footprint DO214AC SMA
pins: 1, 2

## SMAT70A-13-F
designator D?
TVS DIODE 70V 100V SMA; Manufacturer: Diodes Incorporated; Capacitance @ Frequency: 140pF @ 1MHz; Current - Peak Pulse (10/1000µs): 3.5A; Power Line Protection: No; Power - Peak Pulse: 400W; Type: Zener; Unidirectional Channels: 1; Voltage - Breakdown (Min): 77.8V; Part Number: SMAT70A-13-F; Applications: General Purpose; ComponentLink1Description: Datasheet; ComponentLink1URL: https://www.diodes.com/assets/Datasheets/ds30213.pdf; ComponentLink2Description: DigiKey Link; ComponentLink2URL: http://digikey.com/product-detail/en/diodes-incorporated/SMAT70A-13-F/SMAT70A-FDICT-ND/804910; LastUpdated: 9/2/2020 1:20:15 AM; Lifecycle Status: Active; Minimum Order: 1; Mounting Type: Surface Mount; Operating Temperature: -55°C ~ 150°C (TJ); Package / Case: DO-214AC, SMA; Packaging: TapeAndReel; PartId: 5842; Part Status: Active; Price: 0.22; Series: -; Supplier 1: DigiKey; Supplier Part Number 1: SMAT70A-FDICT-ND; Supplier Device Package: SMA; Voltage - Clamping (Max) @ Ipp: 100V; Voltage - Reverse Standoff (Typ): 70V
footprint DO214AC SMA
pins: 1, 2